# Altium footprint library power connector.PcbLib: 1 footprints
Each footprint in its own frame and in the unit in brackets; x right, y up, seen from the top. Pads: shape width x height; smd on the part's side, far side on the other; paste and mask are expansions set on the pad; w line width, h text height; cw(c..) or ccw(c..) is an arc to the next point about the centre after c.
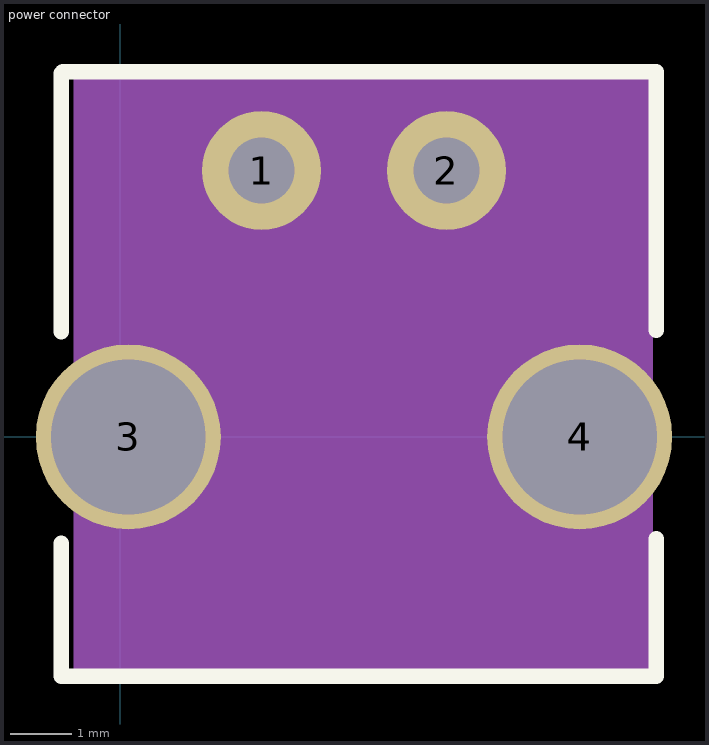
[diagram p0: the footprint, top view; thin cyan lines are the x and y axes]

## power connector [mm]
pads (4):
  round 1.924 hole 1.07: 1(2.287,4.32) 2(5.287,4.32)
  round 3 hole 2.51 paste+0: 3(0.127,0)
  round 3 hole 2.51: 4(7.447,0)
Top Overlay:
  lines w0.254: -0.963,-1.725 -0.963,-3.88 8.687,-3.88 8.687,-1.651 ; -0.963,1.704 -0.963,5.895 -0.938,5.92 8.687,5.92 8.687,1.727
Mechanical 1:
  rectangle: -0.762,-3.81 8.636,5.842